# Altium footprint library PcbLib1.PcbLib: 4 footprints
Each footprint in its own frame and in the unit in brackets; x right, y up, seen from the top. Pads: shape width x height; smd on the part's side, far side on the other; paste and mask are expansions set on the pad; w line width, h text height; cw(c..) or ccw(c..) is an arc to the next point about the centre after c.
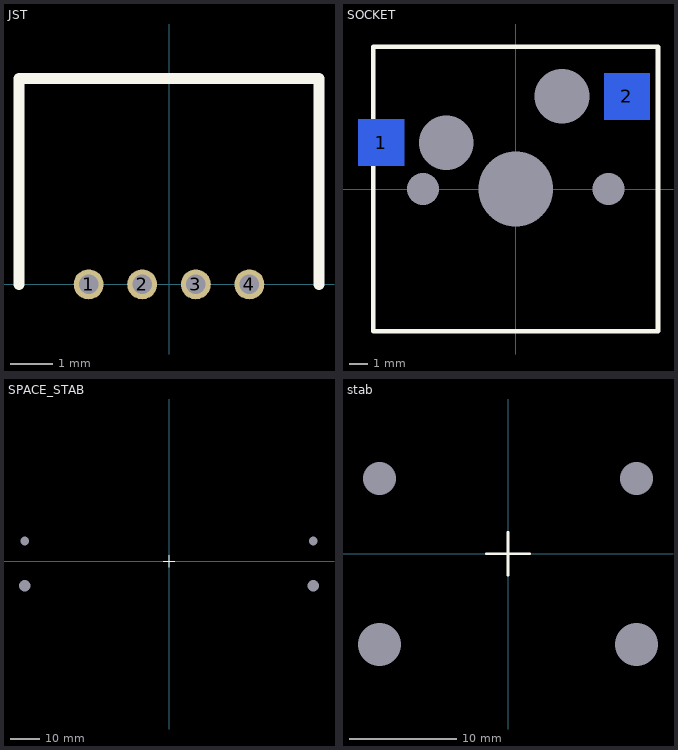
[diagram p0: the footprints below, top view; thin cyan lines are the x and y axes]

## JST [mm]
pads (4):
  round 0.7 hole 0.45: 1(-1.875,0) 2(-0.625,0) 3(0.625,0) 4(1.875,0)
Top Overlay:
  lines w0.254: -3.5,0 -3.5,4.8 3.5,4.8 3.5,0
3D body "JST - GH - Thru (R) - 4Pin - 1.25mm.stp": height 3.33, standoff -2.16, extent -3.374,-0.152 3.374,4.343

## SOCKET [mm]
pads (7):
  round 0 hole 1.753: 0(-5.08,0) 0(5.08,0)
  round 0 hole 3: 0(-3.81,2.54) ""(2.54,5.08)
  rect 2.5x2.55 smd far side: 1(-7.371,2.54) 2(6.096,5.08)
  round 0 hole 4.089: ""(0,0)
Top Overlay:
  lines w0.254: -7.8,-7.8 0,-7.8 7.8,-7.8 7.8,0 7.8,7.8 0,7.8 -7.8,7.8 -7.8,0 -7.8,-7.8
3D body "PG151101S11--3DModel-STEP-1(1).STEP": height 1.85, standoff -1.25, extent -7.91,0.89 6.59,6.78

## SPACE_STAB [mil]
pads (4):
  round 0 hole 120: 17(-1962.5,275) 17(1962.5,275)
  round 0 hole 157: 18(-1962.5,-331.3) 18(1962.5,-331.3)
Top Overlay:
  lines w10: -78.74,0 0,0 ; 0,-78.74 0,0 ; 0,78.74 0,0 ; 78.74,0 0,0

## stab [mil]
pads (4):
  round 0 hole 157: 16(-470,-331.3) 16(470,-331.3)
  round 0 hole 120: ""(-470,275) ""(470,275)
Top Overlay:
  lines w10: -78.74,0 0,0 ; 0,-78.74 0,0 ; 0,78.74 0,0 ; 78.74,0 0,0